# Altium schematic symbol library FPGA Zync.SchLib: 8 symbols (part 3 of 3)
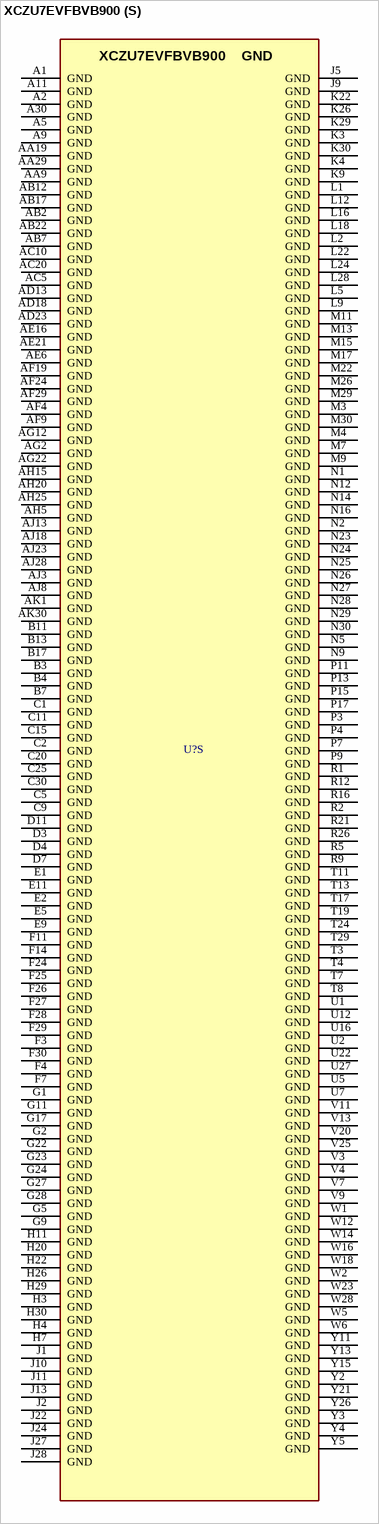
[diagram p26: symbol XCZU7EVFBVB900]

## XCZU7EVFBVB900
designator U?  (value not drawn)
SoC Zynq UltraScale+ MPSoC; MANF: XILINX; VALUE: XCZU7EVFBVB900; MANF_P#: XCZU7EVFBVB900
footprint FBVB900 (Footprint not found)
part A pins: R14 GNDADC, R15 VCCADC, T14 VREFN, T15 VP, U14 VN, U15 VREFP, V14 DXN, V15 DXP, W7 PUDC_B, Y6 POR_OVERRIDE
part B pins: A15 IO_L12N_AD8N_48, A16 IO_L11N_AD9N_48, A17 IO_L11P_AD9P_48, B15 IO_L12P_AD8P_48, B16 IO_L10N_AD10N_48, C16 IO_L9N_AD11N_48, C17 IO_L10P_AD10P_48, D15 IO_L8N_HDGC_48, D16 IO_L9P_AD11P_48, D17 IO_L7N_HDGC_48, E15 IO_L8P_HDGC_48, E16 VCCO_48, E17 IO_L7P_HDGC_48, F15 IO_L6N_HDGC_48, F16 IO_L6P_HDGC_48, G15 IO_L5N_HDGC_48, G16 IO_L5P_HDGC_48, H15 VCCO_48, H16 IO_L4N_AD12N_48, J14 IO_L3N_AD13N_48, J15 IO_L3P_AD13P_48, J16 IO_L4P_AD12P_48, K14 IO_L2N_AD14N_48, K15 IO_L2P_AD14P_48, L14 IO_L1N_AD15N_48, L15 IO_L1P_AD15P_48
part C pins: A12 IO_L12N_AD0N_47, A13 IO_L11N_AD1N_47, A14 IO_L11P_AD1P_47, B12 IO_L12P_AD0P_47, B14 IO_L10N_AD2N_47, C12 IO_L9N_AD3N_47, C13 IO_L8N_HDGC_AD4N_47, C14 IO_L10P_AD2P_47, D12 IO_L9P_AD3P_47, D13 VCCO_47, D14 IO_L8P_HDGC_AD4P_47, E12 IO_L6N_HDGC_AD6N_47, E13 IO_L7N_HDGC_AD5N_47, E14 IO_L7P_HDGC_AD5P_47, F12 IO_L6P_HDGC_AD6P_47, F13 IO_L5N_HDGC_AD7N_47, G12 VCCO_47, G13 IO_L5P_HDGC_AD7P_47, G14 IO_L4N_AD8N_47, H12 IO_L3N_AD9N_47, H13 IO_L3P_AD9P_47, H14 IO_L4P_AD8P_47, J12 IO_L2N_AD10N_47, K11 IO_L1N_AD11N_47, K12 IO_L1P_AD11P_47, K13 IO_L2P_AD10P_47
part D pins: AA1 IO_L24N_T3U_N11_66, AA2 IO_L24P_T3U_N10_66, AA3 IO_L22P_T3U_N6_DBC_AD0P_66, AA4 VCCO_66, AA5 IO_L18N_T2U_N11_AD2N_66, AA6 IO_L18P_T2U_N10_AD2P_66, AA7 IO_L10N_T1U_N7_QBC_AD4N_66, AA8 IO_L12P_T1U_N10_GC_66, AA10 IO_L6N_T0U_N11_AD6N_66, AA11 IO_L2N_T0L_N3_66, AA12 IO_L2P_T0L_N2_66, AB1 IO_L23P_T3U_N8_66, AB3 IO_L22N_T3U_N7_DBC_AD0N_66, AB4 IO_L17P_T2U_N8_AD10P_66, AB5 IO_L14N_T2L_N3_GC_66, AB6 IO_L14P_T2L_N2_GC_66, AB8 IO_L12N_T1U_N11_GC_66, AB9 IO_L5N_T0U_N9_AD14N_66, AB10 IO_L5P_T0U_N8_AD14P_66, AB11 IO_L3P_T0L_N4_AD15P_66, AC1 IO_L23N_T3U_N9_66, AC2 IO_L21N_T3L_N5_AD8N_66, AC3 IO_L21P_T3L_N4_AD8P_66, AC4 IO_L17N_T2U_N9_AD10N_66, AC6 IO_L8P_T1L_N2_AD5P_66, AC7 IO_L11N_T1U_N9_GC_66, AC8 IO_L11P_T1U_N8_GC_66, AC9 IO_L7P_T1L_N0_QBC_AD13P_66, AC11 IO_L3N_T0L_N5_AD15N_66, AC12 IO_L1P_T0L_N0_DBC_66, AD1 IO_L20P_T3L_N2_AD1P_66, AD2 IO_L19P_T3L_N0_DBC_AD9P_66, AD3 VCCO_66, AD4 IO_L16P_T2U_N6_QBC_AD3P_66, AD5 IO_L15P_T2L_N4_AD11P_66, AD6 IO_L8N_T1L_N3_AD5N_66, AD7 IO_L13P_T2L_N0_GC_QBC_66, AD8 VCCO_66, AD9 IO_L7N_T1L_N1_QBC_AD13N_66, AD10 IO_L4N_T0U_N7_DBC_AD7N_66, AD11 IO_L4P_T0U_N6_DBC_AD7P_66, AD12 IO_L1N_T0L_N1_DBC_66, AE1 IO_L20N_T3L_N3_AD1N_66, AE2 IO_L19N_T3L_N1_DBC_AD9N_66, AE3 IO_T2U_N12_66, AE4 IO_L16N_T2U_N7_QBC_AD3N_66, AE5 IO_L15N_T2L_N5_AD11N_66, AE7 IO_L13N_T2L_N1_GC_QBC_66, W8 IO_L9P_T1L_N4_AD12P_66, W9 IO_T1U_N12_66, W10 VREF_66, Y1 IO_T3U_N12_66, Y7 IO_L10P_T1U_N6_QBC_AD4P_66, Y8 IO_L9N_T1L_N5_AD12N_66, Y9 IO_T0U_N12_VRP_66, Y10 IO_L6P_T0U_N10_AD6P_66
part E pins: AE8 IO_L10N_T1U_N7_QBC_AD4N_65, AE9 IO_L10P_T1U_N6_QBC_AD4P_65, AE10 IO_T0U_N12_VRP_65, AE11 VCCO_65, AE12 VREF_65, AF1 IO_T3U_N12_65, AF2 IO_L24N_T3U_N11_PERSTN0_65, AF3 IO_L24P_T3U_N10_PERSTN1_I2C_SDA_65, AF5 IO_L18N_T2U_N11_AD2N_65, AF6 IO_L18P_T2U_N10_AD2P_65, AF7 IO_L9N_T1L_N5_AD12N_65, AF8 IO_L9P_T1L_N4_AD12P_65, AF10 IO_L6P_T0U_N10_AD6P_65, AF11 IO_L2N_T0L_N3_65, AF12 IO_L2P_T0L_N2_65, AG1 IO_L23P_T3U_N8_I2C_SCLK_65, AG3 IO_L22N_T3U_N7_DBC_AD0N_65, AG4 IO_L22P_T3U_N6_DBC_AD0P_65, AG5 IO_L14N_T2L_N3_GC_65, AG6 IO_L14P_T2L_N2_GC_65, AG7 VCCO_65, AG8 IO_L11P_T1U_N8_GC_65, AG9 IO_T1U_N12_65, AG10 IO_L6N_T0U_N11_AD6N_65, AG11 IO_L3P_T0L_N4_AD15P_65, AH1 IO_L23N_T3U_N9_65, AH2 IO_L21N_T3L_N5_AD8N_65, AH3 IO_L21P_T3L_N4_AD8P_65, AH4 IO_T2U_N12_65, AH6 IO_L13P_T2L_N0_GC_QBC_65, AH7 IO_L12P_T1U_N10_GC_65, AH8 IO_L11N_T1U_N9_GC_65, AH9 IO_L8P_T1L_N2_AD5P_65, AH10 VCCO_65, AH11 IO_L3N_T0L_N5_AD15N_65, AH12 IO_L1P_T0L_N0_DBC_65, AJ1 IO_L20N_T3L_N3_AD1N_65, AJ2 IO_L20P_T3L_N2_AD1P_65, AJ4 IO_L17P_T2U_N8_AD10P_65, AJ5 IO_L16P_T2U_N6_QBC_AD3P_65, AJ6 IO_L13N_T2L_N1_GC_QBC_65, AJ7 IO_L12N_T1U_N11_GC_65, AJ9 IO_L8N_T1L_N3_AD5N_65, AJ10 IO_L5P_T0U_N8_AD14P_65, AJ11 IO_L4P_T0U_N6_DBC_AD7P_SMBALERT_65, AJ12 IO_L1N_T0L_N1_DBC_65, AK2 IO_L19N_T3L_N1_DBC_AD9N_65, AK3 IO_L19P_T3L_N0_DBC_AD9P_65, AK4 IO_L17N_T2U_N9_AD10N_65, AK5 IO_L16N_T2U_N7_QBC_AD3N_65, AK6 IO_L15N_T2L_N5_AD11N_65, AK7 IO_L15P_T2L_N4_AD11P_65, AK8 IO_L7N_T1L_N1_QBC_AD13N_65, AK9 IO_L7P_T1L_N0_QBC_AD13P_65, AK10 IO_L5N_T0U_N9_AD14N_65, AK11 IO_L4N_T0U_N7_DBC_AD7N_65
part F pins: AA13 IO_L1P_T0L_N0_DBC_64, AA14 IO_L4P_T0U_N6_DBC_AD7P_64, AA15 IO_L5P_T0U_N8_AD14P_64, AA16 IO_L16P_T2U_N6_QBC_AD3P_64, AA17 VREF_64, AB13 IO_L1N_T0L_N1_DBC_64, AB14 IO_L4N_T0U_N7_DBC_AD7N_64, AB15 IO_L5N_T0U_N9_AD14N_64, AB16 IO_L16N_T2U_N7_QBC_AD3N_64, AC13 IO_T0U_N12_VRP_64, AC14 IO_L3P_T0L_N4_AD15P_64, AC15 VCCO_64, AC16 IO_L15P_T2L_N4_AD11P_64, AC17 IO_L17P_T2U_N8_AD10P_64, AC18 IO_L17N_T2U_N9_AD10N_64, AC19 IO_T2U_N12_64, AD14 IO_L3N_T0L_N5_AD15N_64, AD15 IO_L6P_T0U_N10_AD6P_64, AD16 IO_L15N_T2L_N5_AD11N_64, AD17 IO_L14P_T2L_N2_GC_64, AD19 IO_L18P_T2U_N10_AD2P_64, AE13 IO_L2N_T0L_N3_64, AE14 IO_L2P_T0L_N2_64, AE15 IO_L6N_T0U_N11_AD6N_64, AE17 IO_L14N_T2L_N3_GC_64, AE18 IO_L24P_T3U_N10_64, AE19 IO_L18N_T2U_N11_AD2N_64, AF13 IO_T1U_N12_64, AF14 VCCO_64, AF15 IO_L12P_T1U_N10_GC_64, AF16 IO_L13P_T2L_N0_GC_QBC_64, AF17 IO_L13N_T2L_N1_GC_QBC_64, AF18 IO_L24N_T3U_N11_64, AG13 IO_L7P_T1L_N0_QBC_AD13P_64, AG14 IO_L11P_T1U_N8_GC_64, AG15 IO_L12N_T1U_N11_GC_64, AG16 IO_L19P_T3L_N0_DBC_AD9P_64, AG17 VCCO_64, AG18 IO_L23P_T3U_N8_64, AG19 IO_T3U_N12_64, AH13 IO_L7N_T1L_N1_QBC_AD13N_64, AH14 IO_L11N_T1U_N9_GC_64, AH16 IO_L19N_T3L_N1_DBC_AD9N_64, AH17 IO_L21P_T3L_N4_AD8P_64, AH18 IO_L23N_T3U_N9_64, AJ14 IO_L9P_T1L_N4_AD12P_64, AJ15 IO_L10P_T1U_N6_QBC_AD4P_64, AJ16 IO_L20P_T3L_N2_AD1P_64, AJ17 IO_L21N_T3L_N5_AD8N_64, AK12 IO_L8N_T1L_N3_AD5N_64, AK13 IO_L8P_T1L_N2_AD5P_64, AK14 IO_L9N_T1L_N5_AD12N_64, AK15 IO_L10N_T1U_N7_QBC_AD4N_64, AK16 IO_L20N_T3L_N3_AD1N_64, AK17 IO_L22P_T3U_N6_DBC_AD0P_64, AK18 IO_L22N_T3U_N7_DBC_AD0N_64
part G pins: K7 MGTAVTTRCAL_R, N7 MGTREFCLK1N_224, N8 MGTREFCLK1P_224, P1 MGTHRXN3_224, P2 MGTHRXP3_224, R3 MGTHTXN3_224, R4 MGTHTXP3_224, R7 MGTREFCLK0N_224, R8 MGTREFCLK0P_224, T1 MGTHRXN2_224, T2 MGTHRXP2_224, T5 MGTHTXN2_224, T6 MGTHTXP2_224, U3 MGTHRXN1_224, U4 MGTHRXP1_224, V1 MGTHRXN0_224, V2 MGTHRXP0_224, V5 MGTHTXN1_224, V6 MGTHTXP1_224, W3 MGTHTXN0_224, W4 MGTHTXP0_224
part H pins: J3 MGTHRXN3_225, J4 MGTHRXP3_225, J7 MGTREFCLK1N_225, J8 MGTREFCLK1P_225, K1 MGTHRXN2_225, K2 MGTHRXP2_225, K5 MGTHTXN3_225, K6 MGTHTXP3_225, K8 MGTRREF_R, L3 MGTHTXN2_225, L4 MGTHTXP2_225, L7 MGTREFCLK0N_225, L8 MGTREFCLK0P_225, M1 MGTHRXN1_225, M2 MGTHRXP1_225, M5 MGTHTXN1_225, M6 MGTHTXP1_225, N3 MGTHRXN0_225, N4 MGTHRXP0_225, P5 MGTHTXN0_225, P6 MGTHTXP0_225
part I pins: E3 MGTHRXN3_226, E4 MGTHRXP3_226, E7 MGTHTXN3_226, E8 MGTHTXP3_226, F1 MGTHRXN2_226, F2 MGTHRXP2_226, F5 MGTHTXN2_226, F6 MGTHTXP2_226, F9 MGTREFCLK1N_226, F10 MGTREFCLK1P_226, G3 MGTHRXN1_226, G4 MGTHRXP1_226, G7 MGTHTXN1_226, G8 MGTHTXP1_226, H1 MGTHRXN0_226, H2 MGTHRXP0_226, H5 MGTHTXN0_226, H6 MGTHTXP0_226, H9 MGTREFCLK0N_226, H10 MGTREFCLK0P_226
part J pins: A3 MGTHRXN3_227, A4 MGTHRXP3_227, A7 MGTHTXN3_227, A8 MGTHTXP3_227, B1 MGTHRXN2_227, B2 MGTHRXP2_227, B5 MGTHTXN2_227, B6 MGTHTXP2_227, B9 MGTREFCLK1N_227, B10 MGTREFCLK1P_227, C3 MGTHRXN1_227, C4 MGTHRXP1_227, C7 MGTHTXN1_227, C8 MGTHTXP1_227, D1 MGTHRXN0_227, D2 MGTHRXP0_227, D5 MGTHTXN0_227, D6 MGTHTXP0_227, D9 MGTREFCLK0N_227, D10 MGTREFCLK0P_227
part K pins: A18 PS_MIO24, A19 PS_MIO20, A20 PS_MIO1, B18 PS_MIO25, B19 PS_MIO2, C18 PS_MIO17, C19 PS_MIO5, D18 VCCO_PSIO0_500, D19 PS_MIO3, D20 PS_MIO6, E18 PS_MIO14, E19 PS_MIO7, E20 PS_MIO8, F17 PS_MIO22, F18 PS_MIO10, F19 VCCO_PSIO0_500, F20 PS_MIO9, G18 PS_MIO11, G19 PS_MIO13, H17 PS_MIO0, H18 PS_MIO12, H19 PS_MIO21, J17 PS_MIO4, J18 VCCO_PSIO0_500, J19 PS_MIO15, K16 PS_MIO19, K17 PS_MIO16, K18 PS_MIO18, K19 PS_MIO23
part L pins: A21 PS_MIO28, A22 PS_MIO31, B20 PS_MIO26, B21 PS_MIO27, B22 VCCO_PSIO1_501, B23 PS_MIO35, B24 PS_MIO34, C21 PS_MIO30, C22 PS_MIO33, C23 PS_MIO38, C24 PS_MIO40, D21 PS_MIO29, D22 PS_MIO36, D23 VCCO_PSIO1_501, D24 PS_MIO41, E21 VCCO_PSIO1_501, E22 PS_MIO39, E23 PS_MIO42, E24 PS_MIO44, F21 PS_MIO37, F22 PS_MIO43, F23 PS_MIO45, G20 PS_MIO32, G21 PS_MIO49, H21 PS_MIO51, J20 PS_MIO50, J21 PS_MIO48, K20 PS_MIO46, K21 PS_MIO47
part M pins: A23 PS_MIO54, A24 PS_MIO52, A25 PS_MIO56, A26 PS_MIO57, A27 PS_MIO59, A28 PS_MIO58, A29 PS_MIO63, B25 PS_MIO53, B26 PS_MIO55, B27 VCCO_PSIO2_502, B28 PS_MIO62, B29 PS_MIO61, B30 PS_MIO64, C26 PS_MIO60, C27 PS_MIO66, C28 PS_MIO67, C29 PS_MIO68, D25 PS_MIO65, D26 PS_MIO70, D27 PS_MIO69, D28 VCCO_PSIO2_502, D29 PS_MIO75, D30 PS_MIO71, E25 PS_MIO77, E26 VCCO_PSIO2_502, E27 PS_MIO72, E28 PS_MIO76, E29 PS_MIO74, E30 PS_MIO73
part N pins: L19 PS_JTAG_TCK, L20 PS_JTAG_TDI, L21 PS_JTAG_TMS, M19 PS_PROG_B, M20 PS_JTAG_TDO, M21 PS_PADI, N18 PS_INIT_B, N19 PS_POR_B, N20 VCCO_PSIO3_503, N21 PS_PADO, N22 PS_DONE, P18 VCCO_PSIO3_503, P19 PS_REF_CLK, P20 PS_SRST_B, P21 PS_MODE2, P22 PS_MODE3, R18 PS_MODE0, R19 PS_MODE1, R20 PS_ERROR_STATUS, R22 PS_ERROR_OUT
part O pins: AA23 PS_DDR_DQ37, AA24 VCCO_PSDDR_504, AA25 PS_DDR_DQ38, AA26 PS_DDR_DQ68, AA27 PS_DDR_DM8, AA28 PS_DDR_DQS_N8, AA30 PS_DDR_DQ65, AB23 PS_DDR_ZQ, AB24 PS_DDR_ALERT_N, AB25 PS_DDR_RAM_RST_N, AB26 PS_DDR_PARITY, AB27 VCCO_PSDDR_504, AB28 PS_DDR_CKE1, AB29 PS_DDR_DQ64, AB30 PS_DDR_ODT0, AC21 PS_DDR_DQS_P2, AC22 PS_DDR_DQ28, AC23 PS_DDR_DQ29, AC24 PS_DDR_DQ31, AC25 VCCO_PSDDR_504, AC26 PS_DDR_BA1, AC27 PS_DDR_BG1, AC28 PS_DDR_BG0, AC29 PS_DDR_ODT1, AC30 PS_DDR_CKE0, AD20 PS_DDR_DQ20, AD21 PS_DDR_DQS_N2, AD22 PS_DDR_DQ16, AD24 PS_DDR_DQS_P3, AD25 PS_DDR_DQ30, AD26 PS_DDR_ACT_N, AD27 PS_DDR_BA0, AD28 VCCO_PSDDR_504, AD29 PS_DDR_CS_N1, AD30 PS_DDR_CS_N0, AE20 PS_DDR_DQ22, AE22 PS_DDR_DQ17, AE23 PS_DDR_DQ27, AE24 PS_DDR_DQS_N3, AE25 PS_DDR_DM3, AE26 VCCO_PSDDR_504, AE27 PS_DDR_A7, AE28 PS_DDR_A11, AE29 PS_DDR_A10, AE30 PS_DDR_CK0, AF20 PS_DDR_DQ21, AF21 PS_DDR_DM2, AF22 PS_DDR_DQ18, AF23 PS_DDR_DQ25, AF25 PS_DDR_DQ26, AF26 PS_DDR_A8, AF27 PS_DDR_A6, AF28 PS_DDR_CK1, AF30 PS_DDR_CK_N0, AG20 PS_DDR_DQ23, AG21 PS_DDR_DQ19, AG23 PS_DDR_DQ24, AG24 PS_DDR_DQ10, AG25 PS_DDR_DQ14, AG26 PS_DDR_A9, AG27 VCCO_PSDDR_504, AG28 PS_DDR_CK_N1, AG29 PS_DDR_A14, AG30 PS_DDR_A1, AH19 PS_DDR_DQ7, AH21 PS_DDR_DQ1, AH22 PS_DDR_DQ0, AH23 PS_DDR_DQ8, AH24 PS_DDR_DQS_P1, AH26 PS_DDR_DQ15, AH27 PS_DDR_A16, AH28 PS_DDR_A13, AH29 PS_DDR_A12, AH30 PS_DDR_A0, AJ19 PS_DDR_DQ5, AJ20 PS_DDR_DM0, AJ21 PS_DDR_DQS_P0, AJ22 PS_DDR_DQ2, AJ24 PS_DDR_DQS_N1, AJ25 PS_DDR_DM1, AJ26 PS_DDR_DQ12, AJ27 PS_DDR_A17, AJ29 PS_DDR_A15, AJ30 PS_DDR_A3, AK19 PS_DDR_DQ6, AK20 PS_DDR_DQ4, AK21 PS_DDR_DQS_N0, AK22 PS_DDR_DQ3, AK23 PS_DDR_DQ9, AK24 PS_DDR_DQ11, AK25 PS_DDR_DQ13, AK26 VCCO_PSDDR_504, AK27 PS_DDR_A5, AK28 PS_DDR_A4, AK29 PS_DDR_A2, P23 PS_DDR_DQ40, P24 PS_DDR_DQ47, P25 PS_DDR_DQS_P5, P26 PS_DDR_DQ43, P27 PS_DDR_DQ62, P28 PS_DDR_DM7, P29 PS_DDR_DQ59, P30 PS_DDR_DQ58, R23 PS_DDR_DQ41, R24 PS_DDR_DM5, R25 PS_DDR_DQS_N5, R27 PS_DDR_DQ63, R28 PS_DDR_DQS_P7, R29 PS_DDR_DQS_N7, R30 PS_DDR_DQ56, T23 PS_DDR_DQ42, T25 PS_DDR_DQ44, T26 PS_DDR_DQ46, T27 PS_DDR_DQ61, T28 PS_DDR_DQ60, T30 PS_DDR_DQ57, U23 PS_DDR_DQ45, U24 PS_DDR_DQ32, U25 PS_DDR_DQ34, U26 PS_DDR_DQ48, U28 PS_DDR_DQ50, U29 PS_DDR_DQS_P6, U30 PS_DDR_DQ52, V23 PS_DDR_DQ33, V24 PS_DDR_DQ35, V26 PS_DDR_DQ49, V27 PS_DDR_DQ51, V28 PS_DDR_DM6, V29 PS_DDR_DQS_N6, V30 PS_DDR_DQ53, W24 PS_DDR_DQS_P4, W25 PS_DDR_DQS_N4, W26 PS_DDR_DQ71, W27 PS_DDR_DQ69, W29 PS_DDR_DQ55, W30 PS_DDR_DQ54, Y23 PS_DDR_DQ39, Y24 PS_DDR_DM4, Y25 PS_DDR_DQ36, Y27 PS_DDR_DQ70, Y28 PS_DDR_DQS_P8, Y29 PS_DDR_DQ67, Y30 PS_DDR_DQ66
part P pins: G25 PS_MGTRTXP3_505, G26 PS_MGTRTXN3_505, G29 PS_MGTRRXP3_505, G30 PS_MGTRRXN3_505, H23 PS_MGTREFCLK3P_505, H24 PS_MGTREFCLK3N_505, H27 PS_MGTRRXP2_505, H28 PS_MGTRRXN2_505, J25 PS_MGTRTXP2_505, J26 PS_MGTRTXN2_505, J29 PS_MGTRRXP1_505, J30 PS_MGTRRXN1_505, K23 PS_MGTREFCLK2P_505, K24 PS_MGTREFCLK2N_505, K27 PS_MGTRTXP1_505, K28 PS_MGTRTXN1_505, L25 PS_MGTREFCLK1P_505, L26 PS_MGTREFCLK1N_505, L29 PS_MGTRRXP0_505, L30 PS_MGTRRXN0_505, M23 PS_MGTREFCLK0P_505, M24 PS_MGTREFCLK0N_505, M25 PS_MGTRREF_505, M27 PS_MGTRTXP0_505, M28 PS_MGTRTXN0_505
part Q pins: A6 MGTAVTT_R, A10 MGTAVCC_R, B8 MGTAVTT_R, C6 MGTAVTT_R, C10 MGTAVCC_R, D8 MGTAVTT_R, E6 MGTAVTT_R, E10 MGTVCCAUX_R, F8 MGTAVCC_R, G6 MGTAVTT_R, G10 MGTVCCAUX_R, H8 MGTAVCC_R, H25 PS_MGTRAVTT, J6 MGTAVTT_R, J23 PS_MGTRAVCC, K25 PS_MGTRAVTT, L6 MGTAVTT_R, L23 PS_MGTRAVCC, L27 PS_MGTRAVTT, M8 MGTAVCC_R, N6 MGTAVTT_R, P8 MGTAVCC_R, R6 MGTAVTT_R, U6 MGTAVTT_R
part R pins: AA18 VCC_PSINTFP, AA20 VCC_PSINTFP, AA21 VCC_PSINTFP_DDR, AA22 VCC_PSINTFP_DDR, AB18 VCCINT_VCU, AB19 VCCINT_VCU, AB20 VCCINT_VCU, AB21 VCCINT_VCU, K10 VCCAUX, L10 VCCAUX, L11 VCCINT, L13 VCCINT, L17 VCCINT, M10 VCCAUX_IO, M12 VCCINT, M14 VCCINT, M16 VCCINT, M18 VCCINT, N10 VCCAUX_IO, N11 VCCINT, N13 VCCINT, N15 VCCINT, N17 VCCINT, P10 VCCAUX_IO, P12 VCCINT, P14 VCCINT, P16 VCCINT, R10 VCCBRAM, R11 VCCINT, R13 VCCINT, R17 VCCINT, T9 VCCINT_IO, T10 VCCBRAM, T12 VCCINT, T16 VCCINT, T18 VCC_PSPLL, T20 VCC_PSPLL, T21 VCC_PSPLL, T22 VCC_PSAUX, U8 VCCINT_IO, U9 VCCINT_IO, U10 VCCBRAM, U11 VCCINT, U13 VCCINT, U17 VCCINT, U18 VCC_PSDDR_PLL, U19 VCC_PSDDR_PLL, U20 VCC_PSBATT, U21 VCC_PSAUX, V8 VCCINT_IO, V10 VCCBRAM, V12 VCCINT, V16 VCCINT, V17 VCC_PSINTLP, V18 VCC_PSINTLP, V19 VCC_PSINTLP, V21 VCC_PSAUX, V22 VCC_PSAUX, W11 VCCINT, W13 VCCINT, W15 VCCINT, W17 VCC_PSINTLP, W19 VCC_PSINTLP, W20 VCC_PSINTLP, W21 GND_PSADC, W22 VCC_PSADC, Y12 VCCINT, Y14 VCCINT, Y16 VCC_PSINTFP, Y17 VCC_PSINTFP, Y18 VCC_PSINTFP, Y19 VCC_PSINTFP, Y20 VCC_PSINTFP, Y22 VCC_PSINTFP_DDR
part S pins: A1 GND, A2 GND, A5 GND, A9 GND, A11 GND, A30 GND, AA9 GND, AA19 GND, AA29 GND, AB2 GND, AB7 GND, AB12 GND, AB17 GND, AB22 GND, AC5 GND, AC10 GND, AC20 GND, AD13 GND, AD18 GND, AD23 GND, AE6 GND, AE16 GND, AE21 GND, AF4 GND, AF9 GND, AF19 GND, AF24 GND, AF29 GND, AG2 GND, AG12 GND, AG22 GND, AH5 GND, AH15 GND, AH20 GND, AH25 GND, AJ3 GND, AJ8 GND, AJ13 GND, AJ18 GND, AJ23 GND, AJ28 GND, AK1 GND, AK30 GND, B3 GND, B4 GND, B7 GND, B11 GND, B13 GND, B17 GND, C1 GND, C2 GND, C5 GND, C9 GND, C11 GND, C15 GND, C20 GND, C25 GND, C30 GND, D3 GND, D4 GND, D7 GND, D11 GND, E1 GND, E2 GND, E5 GND, E9 GND, E11 GND, F3 GND, F4 GND, F7 GND, F11 GND, F14 GND, F24 GND, F25 GND, F26 GND, F27 GND, F28 GND, F29 GND, F30 GND, G1 GND, G2 GND, G5 GND, G9 GND, G11 GND, G17 GND, G22 GND, G23 GND, G24 GND, G27 GND, G28 GND, H3 GND, H4 GND, H7 GND, H11 GND, H20 GND, H22 GND, H26 GND, H29 GND, H30 GND, J1 GND, J2 GND, J5 GND, J9 GND, J10 GND, J11 GND, J13 GND, J22 GND, J24 GND, J27 GND, J28 GND, K3 GND, K4 GND, K9 GND, K22 GND, K26 GND, K29 GND, K30 GND, L1 GND, L2 GND, L5 GND, L9 GND, L12 GND, L16 GND, L18 GND, L22 GND, L24 GND, L28 GND, M3 GND, M4 GND, M7 GND, M9 GND, M11 GND, M13 GND, M15 GND, M17 GND, M22 GND, M26 GND, M29 GND, M30 GND, N1 GND, N2 GND, N5 GND, N9 GND, N12 GND, N14 GND, N16 GND, N23 GND, N24 GND, N25 GND, N26 GND, N27 GND, N28 GND, N29 GND, N30 GND, P3 GND, P4 GND, P7 GND, P9 GND, P11 GND, P13 GND, P15 GND, P17 GND, R1 GND, R2 GND, R5 GND, R9 GND, R12 GND, R16 GND, R21 GND, R26 GND, T3 GND, T4 GND, T7 GND, T8 GND, T11 GND, T13 GND, T17 GND, T19 GND, T24 GND, T29 GND, U1 GND, U2 GND, U5 GND, U7 GND, U12 GND, U16 GND, U22 GND, U27 GND, V3 GND, V4 GND, V7 GND, V9 GND, V11 GND, V13 GND, V20 GND, V25 GND, W1 GND, W2 GND, W5 GND, W6 GND, W12 GND, W14 GND, W16 GND, W18 GND, W23 GND, W28 GND, Y2 GND, Y3 GND, Y4 GND, Y5 GND, Y11 GND, Y13 GND, Y15 GND, Y21 GND, Y26 GND
part B text: PL48
part C text: PL47
part D text: PL66
part E text: PL65
part F text: PL64
part G text: MGT224
part H text: MGT225
part I text: MGT226
part J text: MGT227
part K text: PS_MIO_500
part L text: PS_MIO_501
part M text: PS_MIO_502
part N text: PSCONFIG503
part O text: DDR504
part P text: MGT505
part Q text: MGTPWR
part R text: VCC